# EAGLE library part US6M11TR (library DUALMOS)
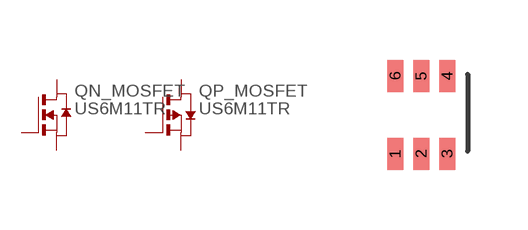
[diagram p0: symbol with the pads of TUMT6; footprint TUMT6]

Designator prefix Q; gates N_MOSFET=N_MOSFET P_MOSFET=P_MOSFET

## US6M11TR (DIGIKEY: US6M11CT-ND)  [TUMT6]
1  N_MOSFET:S  pas
2  N_MOSFET:G  pas
3  P_MOSFET:D  pas
4  P_MOSFET:S  pas
5  P_MOSFET:G  pas
6  N_MOSFET:D  pas

## Footprint TUMT6 (pad centres in mm)
smd 0.4 x 0.8: 1 -0.65,-0.65; 2 0,-0.65; 3 0.65,-0.65; 4 0.65,1.3; 5 0,1.3; 6 -0.65,1.3